# Altium footprint library PcbLib1.PcbLib: 42 footprints (part 3 of 3)
Each footprint in its own frame and in the unit in brackets; x right, y up, seen from the top. Pads: shape width x height; smd on the part's side, far side on the other; paste and mask are expansions set on the pad; w line width, h text height; cw(c..) or ccw(c..) is an arc to the next point about the centre after c.
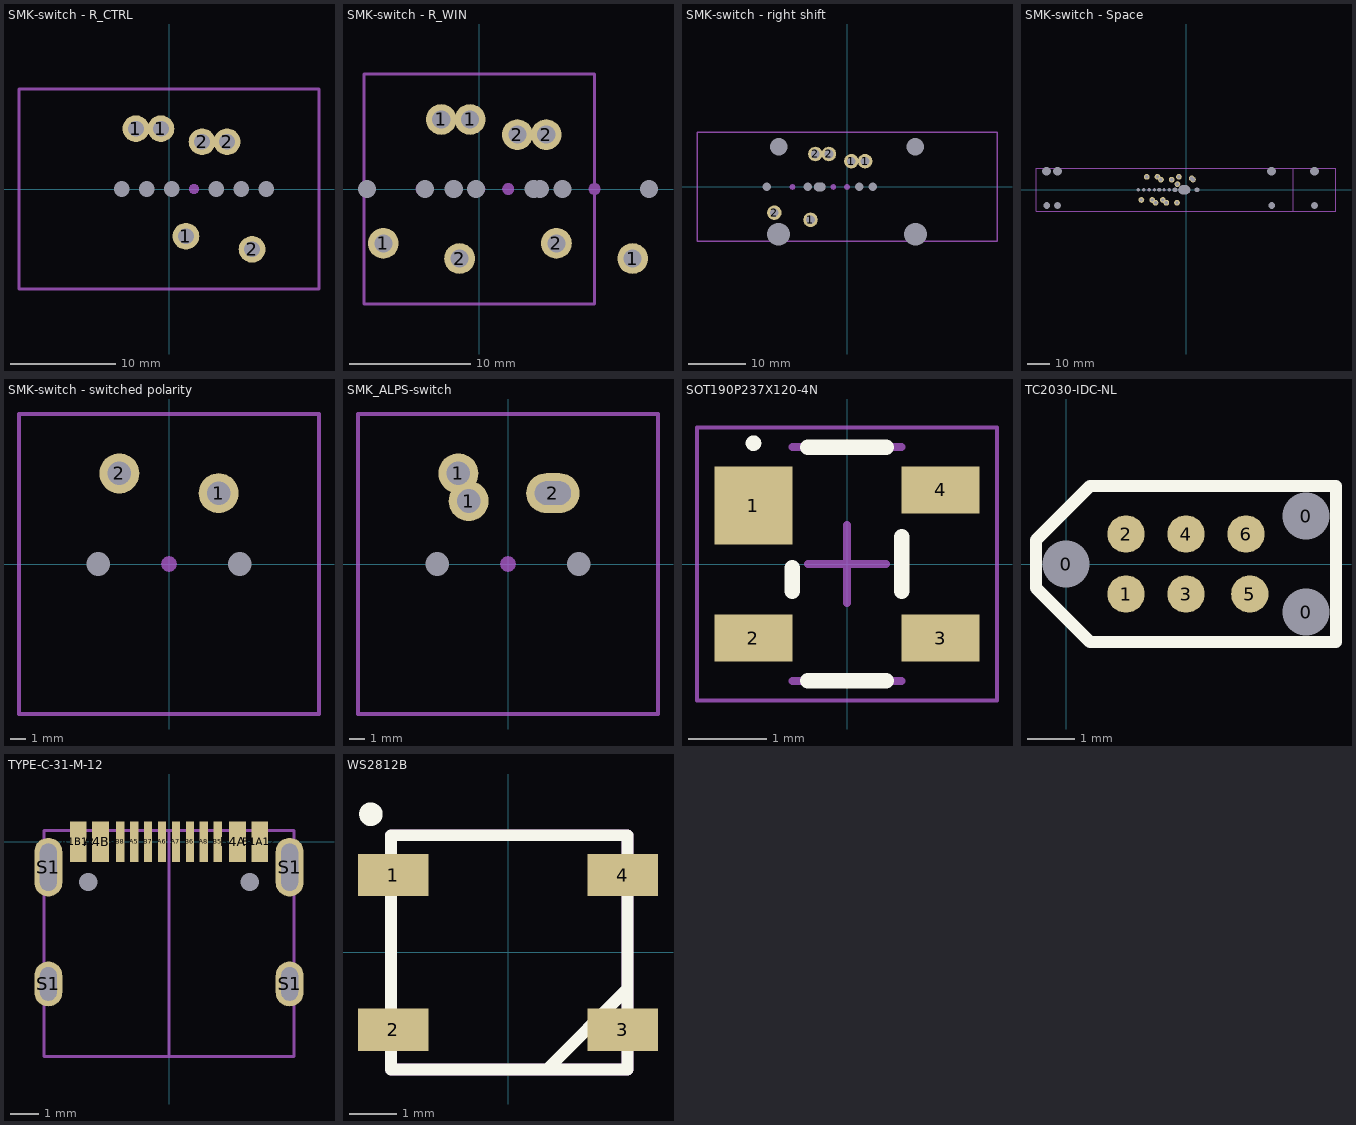
[diagram p2: the footprints below, top view; thin cyan lines are the x and y axes]

## SMK-switch - R_CTRL [mm]
pads (15):
  round 2.54 hole 1.499: 1(-3.15,5.75) 1(-0.769,5.75) 1(1.613,-4.5) 2(3.15,4.5) 2(5.531,4.5) 2(7.912,-5.75)
  round 1 hole 1.5 unplated: ""(-4.5,0) ""(-2.119,0) ""(0.262,0) ""(4.5,0) ""(6.881,0) ""(9.263,0)
  round 1 on Mech13: ""(0,0) ""(2.381,0) ""(4.763,0)
Mechanical 13:
  lines w0.254: -14.287,-9.525 14.287,-9.525 14.287,9.525 -14.287,9.525 -14.287,-9.525
  text ".Designator" at -10.675,-5.325 h0.7

## SMK-switch - R_WIN [mm]
pads (21):
  round 2.54 hole 1.499: 1(-7.938,-4.5) 1(-3.15,5.75) 1(-0.769,5.75) 1(12.675,-5.75) 2(-1.638,-5.75) 2(3.15,4.5) 2(5.531,4.5) 2(6.375,-4.5)
  round 1 hole 1.5 unplated: ""(-9.288,0) ""(-4.5,0) ""(-2.119,0) ""(-0.288,0) ""(4.5,0) ""(5.025,0) ""(6.881,0) ""(14.025,0)
  round 1 on Mech13: ""(-4.788,0) ""(-4.763,0) ""(0,0) ""(2.381,0) ""(9.525,0)
Mechanical 13:
  lines w0.254: -9.525,-9.525 9.525,-9.525 9.525,9.525 -9.525,9.525 -9.525,-9.525
  text ".Designator" at -4.225,-8.325 h0.7

## SMK-switch - right shift [mm]
pads (18):
  round 2.54 hole 1.499: 1(-6.375,-5.75) 1(0.769,4.5) 1(3.15,4.5) 2(-12.675,-4.5) 2(-5.531,5.75) 2(-3.15,5.75)
  round 1 hole 1.5 unplated: ""(-14.025,0) ""(-6.881,0) ""(2.119,0) ""(4.5,0)
  round 1.524 hole 3.988 unplated: ""(-11.938,-8.255) ""(11.938,-8.255)
  round 1.524 hole 3.048 unplated: ""(-11.938,6.985) ""(11.938,6.985)
  round 1 on Mech13: ""(-9.525,0) ""(-2.381,0) ""(0,0)
  round 1 hole 1.5 slot 2 at 0 deg unplated: ""(-4.75,0)
Mechanical 13:
  lines w0.254: -26.194,-9.525 -26.194,9.525 26.194,9.525 26.194,-9.525 -26.194,-9.525
  text ".Designator" at -4.3,-5.55 h0.7

## SMK-switch - Space [mm]
pads (38):
  round 2.54 hole 1.499: 1(-19.826,-4.5) 1(-12.675,5.75) 1(-11.145,4.5) 1(-10.286,-4.5) 1(-8.764,-5.75) 1(-3.81,2.54) 1(-3.15,5.75) 2(-17.445,5.75) 2(-15.064,-4.5) 2(-13.526,-5.75) 2(-6.375,4.5) 2(-3.986,-5.75)
  oval 3.3x2.54 hole 1.499 slot 2.4 at 135 deg rot 135: 2(2.825,4.825)
  round 1.524 hole 3.048 unplated: ""(-61.91,-6.985) ""(-57.15,-6.985) ""(38.09,-6.985) ""(57.15,-6.985)
  round 1.524 hole 3.988 unplated: ""(-61.91,8.255) ""(-57.15,8.255) ""(38.09,8.255) ""(57.15,8.255)
  round 1 hole 1.5 unplated: ""(-21.176,0) ""(-18.795,0) ""(-16.414,0) ""(-14.025,0) ""(-12.176,0) ""(-11.636,0) ""(-9.795,0) ""(-7.414,0)
  round 1 on Mech13: ""(-16.676,0) ""(-14.295,0) ""(-11.914,0) ""(-9.525,0) ""(-7.136,0) ""(0,0)
  round 1 hole 1.702 slot 2.05 at 0 deg unplated: ""(-4.875,0) ""(4.875,0)
  round 1 hole 3.988 slot 5.25 at 0 deg unplated: ""(-0.75,0)
Mechanical 13:
  lines w0.254: 47.621,-9.525 47.621,9.525 ; -66.675,-9.525 66.675,-9.525 66.675,9.525 -66.675,9.525 -66.675,-9.525
  text ".Designator" at 7.625,-2.4 h0.7
Mechanical 15:
  text "7U" at -0.935,-5.325 h1.52
  text "6U" at -10.675,2.3 h1.52
  text "6.25U" at -17.925,-4.275 h1.52
  text "6.25U" at 46.265,-3.6 h1.52
  text "7U" at 65.831,-1.85 h1.52

## SMK-switch - switched polarity [mm]
pads (5):
  round 2.54 hole 1.499: 1(3.15,4.5) 2(-3.15,5.75)
  round 1 hole 1.5 unplated: ""(-4.5,0) ""(4.5,0)
  round 1 on Mech13: ""(0,0)
Mechanical 13:
  lines w0.254: -9.525,-9.525 -9.525,9.525 9.525,9.525 9.525,-9.525 -9.525,-9.525
  text ".Designator" at -3.575,-3.7 h0.7

## SMK_ALPS-switch [mm]
pads (6):
  round 2.54 hole 1.499: 1(-3.15,5.75) 1(-2.5,4)
  oval 3.4x2.54 hole 1.499 slot 2.3 at 0 deg: 2(2.85,4.5)
  round 1 hole 1.5 unplated: ""(-4.5,0) ""(4.5,0)
  round 1 on Mech13: ""(0,0)
Mechanical 13:
  lines w0.254: -9.525,-9.525 9.525,-9.525 9.525,9.525 -9.525,9.525 -9.525,-9.525
  text ".Designator" at -3.575,-3.7 h0.7

## SOT190P237X120-4N [mm] "SOT143, 4-Leads, Body 3,00x2,37mm, Pitch 1,90mm, IPC Medium Density"
height 1.2
pads (4):
  rect 1x1 smd: 1(-1.2,0.75)
  rect 1x0.6 smd: 2(-1.2,-0.95) 3(1.2,-0.95) 4(1.2,0.95)
Top Overlay:
  circle w0.1: c-1.2,1.55 r0.05
  lines w0.2: -0.7,-0.35 -0.7,-0.05 ; -0.5,-1.5 0.5,-1.5 ; -0.5,1.5 0.5,1.5 ; 0.7,-0.35 0.7,0.35
Mechanical 13:
  lines w0.1: -0.7,-1.5 0.7,-1.5 ; -0.7,1.5 0.7,1.5
  text ".Designator" at 0.1,-1.325 h0.35
Mechanical 15:
  lines w0.05: -1.925,-1.75 1.925,-1.75 1.925,1.75 -1.925,1.75 -1.925,-1.75
  lines w0.1: -0.5,0 0.5,0 ; 0,-0.5 0,0.5
3D body "SOT143B.step": height 1.09, standoff 0, extent -1.245,-1.499 1.245,1.499

## TC2030-IDC-NL [mm] "Tag-Connect 6-Pin with No Legs (PN# TC2030-IDC-NL)"
pads (9):
  round 0.9 hole 0.995 unplated: 0(0,0) 0(5.08,-1.016) 0(5.08,1.016)
  round 0.79 smd paste-0.39: 1(1.27,-0.635) 2(1.27,0.635) 3(2.54,-0.635) 4(2.54,0.635) 5(3.89,-0.635) 6(3.81,0.635)
Top Overlay:
  lines w0.254: -0.635,-0.508 0.508,-1.651 5.715,-1.651 5.715,1.651 0.508,1.651 -0.635,0.508 -0.635,-0.508

## TYPE-C-31-M-12 [mm]
pads (18):
  rect 0.6x1.45 smd: A1B12(-3.25,0) A4B9(-2.45,0) B1A12(3.25,0) B4A9(2.45,0)
  rect 0.3x1.45 smd: A5(-1.25,0) A6(-0.25,0) A7(0.25,0) A8(1.25,0) B5(1.75,0) B6(0.75,0) B7(-0.75,0) B8(-1.75,0)
  oval 1x1.6 / inner oval 1x1.6 / far side oval 1.3x2 hole 0.6 slot 1.2 at 90 deg: S1(-4.32,-5.095) S1(4.32,-5.095)
  oval 1x2.1 / inner oval 1x2.1 / far side oval 1.3x2.4 hole 0.6 slot 1.7 at 90 deg: S1(-4.32,-0.915) S1(4.32,-0.915)
  round 0 hole 0.65 unplated: ""(-2.89,-1.445) ""(2.89,-1.445)
Mechanical 13:
  lines w0.1: -4.47,-7.695 4.47,-7.695 4.47,0.395 -4.47,0.395 -4.47,-7.695
  text ".Designator" at -3.725,-3.7 h0.7
Mechanical 15:
  lines w0.1: 0,-7.695 0,0.395
  text "connector edge" at -2.95,-7.25 h1
3D body "HRO  TYPE-C-31-M-12.step": height 3.21, standoff -1, extent -4.475,-7.725 4.465,0.175

## WS2812B [mm]
pads (4):
  rect 1.5x0.9 smd: 1(-2.45,1.65) 2(-2.45,-1.65) 3(2.45,-1.65) 4(2.45,1.65)
Top Overlay:
  circle w0.254: c-2.925,2.95 r0.125
  lines w0.254: 0.775,-2.5 0.825,-2.5 2.55,-0.775 ; 2.5,-2.5 -2.5,-2.5 -2.5,2.5 2.5,2.5 ; 2.55,-2.5 2.55,2.5
Mechanical 13:
  lines w0.254: 2.5,-2.5 -2.5,-2.5 -2.5,2.5 2.5,2.5 ; 2.55,-2.5 2.55,2.5
  text ".Designator" at -2.275,-0.425 h0.6
3D body "WS2812_RGB_LED_updated.stp": height 1.5, standoff -0.2, extent -2.65,-2.45 2.7,2.5